# Altium schematic symbol library AD8544ARZ.SchLib: 1 symbol
Pins are listed as number, name and electrical type; pins without a type are passive.

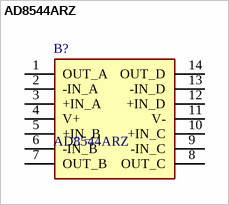
[diagram p0: symbol AD8544ARZ]

## AD8544ARZ
designator B?
CMOS Rail-to-Rail General-Purpose Amplifiers; Manufacturer_Name: Analog Devices; Geometry.Height: 1.75mm; Mouser Part Number: 584-AD8544ARZ; Mouser Price/Stock: https://www.mouser.co.uk/ProductDetail/Analog-Devices/AD8544ARZ?qs=%2FtpEQrCGXCzsY1tAHopYQw%3D%3D; Manufacturer_Part_Number: AD8544ARZ; Datasheet Link: https://www.analog.com/AD8544/datasheet
footprint SOIC127P600X175-14N
pins: 1 OUT_A, 2 -IN_A, 3 +IN_A, 4 V+, 5 +IN_B, 6 -IN_B, 7 OUT_B, 8 OUT_C, 9 -IN_C, 10 +IN_C, 11 V-, 12 +IN_D, 13 -IN_D, 14 OUT_D